# EAGLE library part LB11961V-TLM-H (library LB11961V-TLM-H)
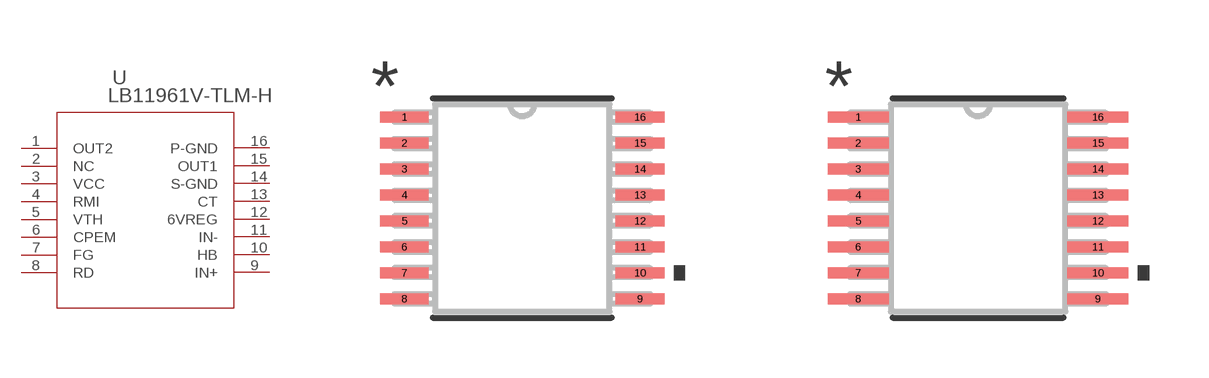
[diagram p0: symbol with the pads of SSOP16_4P4X5P2_ONS; footprints SSOP16_4P4X5P2_ONS, SSOP16_4P4X5P2_ONS-M]

Designator prefix U

## LB11961V-TLM-H (COPYRIGHT: Copyright (C) 2016 Accelerated Designs. All rights reserved; MANUFACTURER_PART_NUMBER: LB11961V-TLM-H; SOURCELIBRARY: ONSemi_2017-12-12_3; VENDOR: ON Semiconductor)  [SSOP16_4P4X5P2_ONS]
1  OUT2  out
2  NC  nc
3  VCC  pwr
4  RMI  pas
5  VTH  pas
6  CPEM  pas
7  FG  pas
8  RD  pas
9  IN+  in
10  HB  pas
11  IN-  in
12  6VREG  pas
13  CT  pas
14  S-GND  pwr
15  OUT1  out
16  P-GND  pwr

## LB11961V-TLM-HSSOP16_4P4X5P2_ONS-M (COPYRIGHT: Copyright (C) 2016 Accelerated Designs. All rights reserved; MANUFACTURER_PART_NUMBER: LB11961V-TLM-H; SOURCELIBRARY: ONSemi_2017-12-12_3; VENDOR: ON Semiconductor)  [SSOP16_4P4X5P2_ONS-M]
Pads as for SSOP16_4P4X5P2_ONS

## LB11961V-TLM-HSSOP16_4P4X5P2_ONS-L (COPYRIGHT: Copyright (C) 2016 Accelerated Designs. All rights reserved; MANUFACTURER_PART_NUMBER: LB11961V-TLM-H; SOURCELIBRARY: ONSemi_2017-12-12_3; VENDOR: ON Semiconductor)  [SSOP16_4P4X5P2_ONS-L]
Pads as for SSOP16_4P4X5P2_ONS

## Footprint SSOP16_4P4X5P2_ONS (pad centres in mm)
smd 1.219 x 0.279: 1 -2.946,2.275; 2 -2.946,1.625; 3 -2.946,0.975; 4 -2.946,0.325; 5 -2.946,-0.325; 6 -2.946,-0.975; 7 -2.946,-1.625; 8 -2.946,-2.275; 9 2.946,-2.275; 10 2.946,-1.625; 11 2.946,-0.975; 12 2.946,-0.325; 13 2.946,0.325; 14 2.946,0.975; 15 2.946,1.625; 16 2.946,2.275

## Footprint SSOP16_4P4X5P2_ONS-M (pad centres in mm)
smd 1.524 x 0.279: 1 -2.997,2.275; 2 -2.997,1.625; 3 -2.997,0.975; 4 -2.997,0.325; 5 -2.997,-0.325; 6 -2.997,-0.975; 7 -2.997,-1.625; 8 -2.997,-2.275; 9 2.997,-2.275; 10 2.997,-1.625; 11 2.997,-0.975; 12 2.997,-0.325; 13 2.997,0.325; 14 2.997,0.975; 15 2.997,1.625; 16 2.997,2.275

## Footprint SSOP16_4P4X5P2_ONS-L (pad centres in mm)
smd 0.914 x 0.229: 1 -2.896,2.275; 2 -2.896,1.625; 3 -2.896,0.975; 4 -2.896,0.325; 5 -2.896,-0.325; 6 -2.896,-0.975; 7 -2.896,-1.625; 8 -2.896,-2.275; 9 2.896,-2.275; 10 2.896,-1.625; 11 2.896,-0.975; 12 2.896,-0.325; 13 2.896,0.325; 14 2.896,0.975; 15 2.896,1.625; 16 2.896,2.275